# Altium footprint library Altium Example Master PCB Library End.PcbLib: 217 footprints (part 9 of 14)
Each footprint in its own frame and in the unit in brackets; x right, y up, seen from the top. Pads: shape width x height; smd on the part's side, far side on the other; paste and mask are expansions set on the pad; w line width, h text height; cw(c..) or ccw(c..) is an arc to the next point about the centre after c.
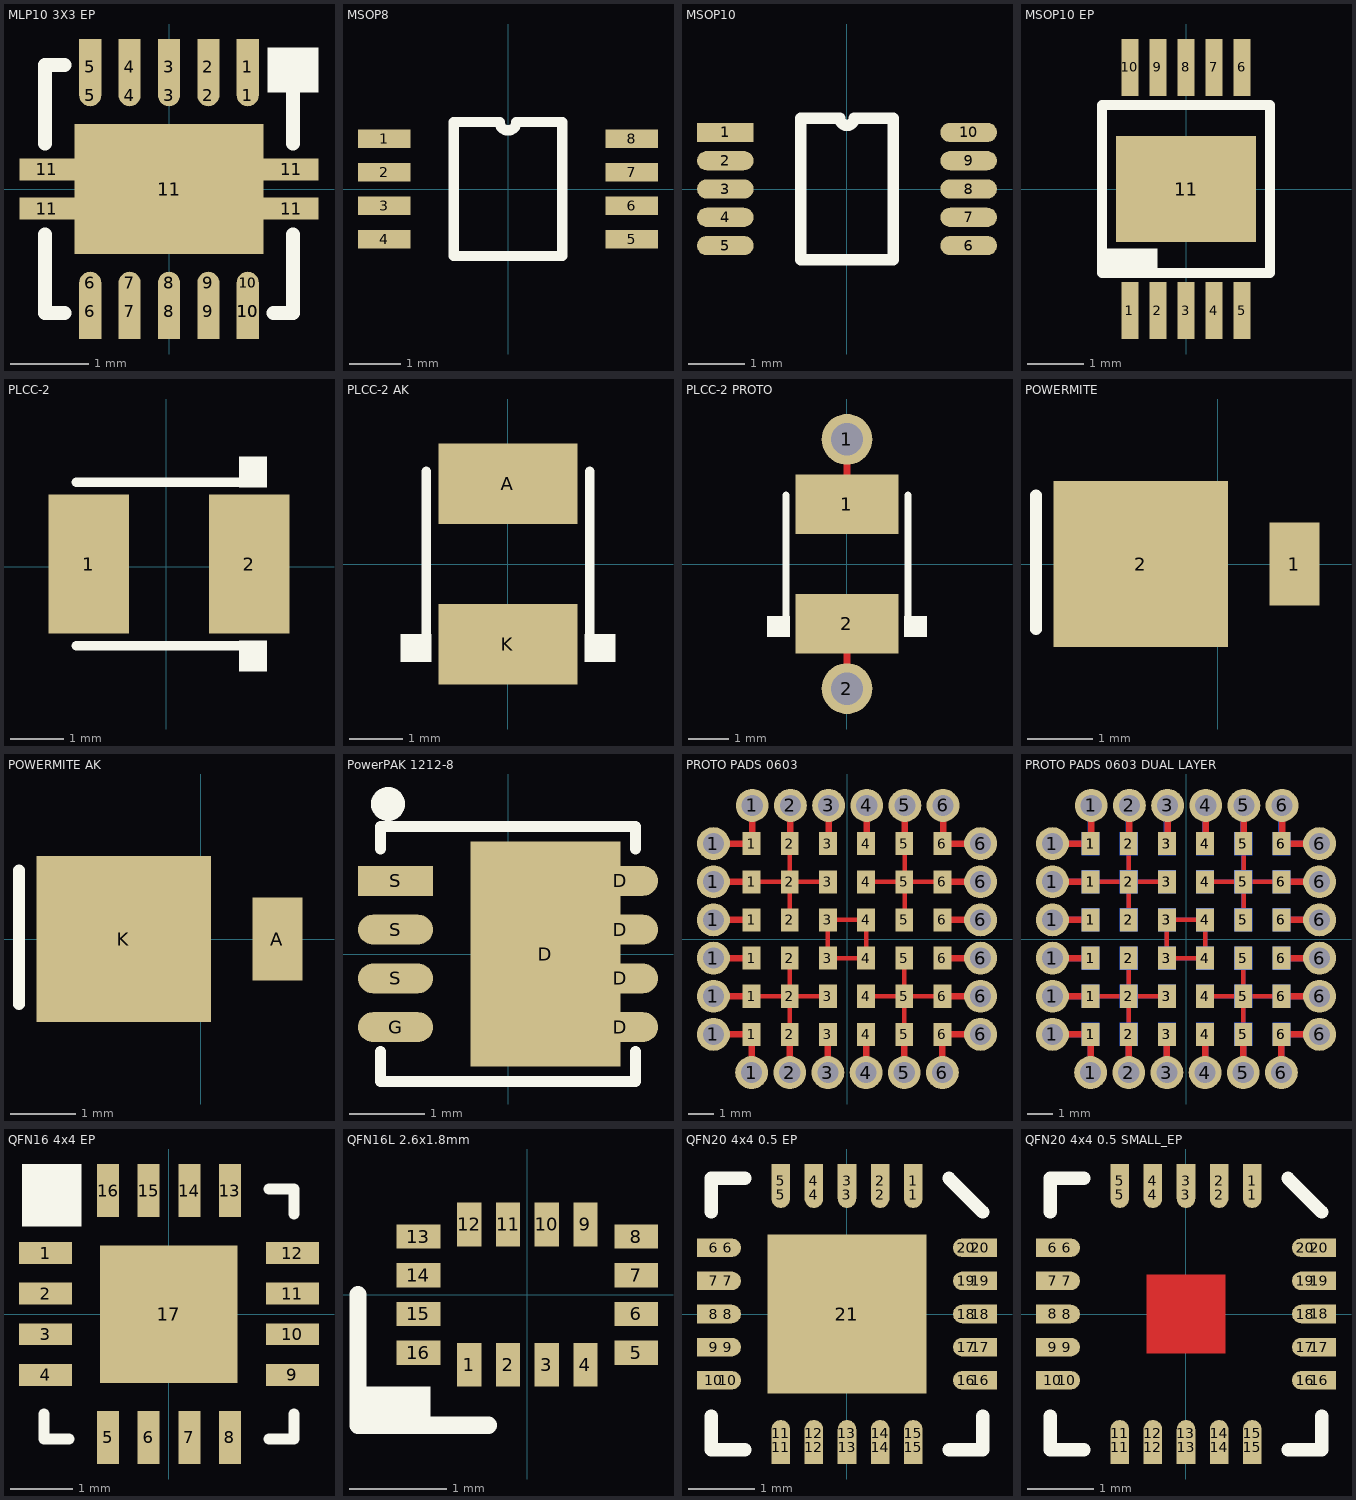
[diagram p8: the footprints below, top view; thin cyan lines are the x and y axes]

## MLP10 3X3 EP [mm]
pads (27):
  round 0.28 smd: 1(1,1.19) 2(0.5,1.19) 3(0,1.19) 4(-0.5,1.19) 5(-1,1.19) 6(-1,-1.19) 7(-0.5,-1.19) 8(0,-1.19) 9(0.5,-1.19) 10(1,-1.19) 10(1,-1.19)
  rect 0.28x0.71 smd: 1(1,1.55) 2(0.5,1.55) 3(0,1.55) 4(-0.5,1.55) 5(-1,1.55) 6(-1,-1.55) 7(-0.5,-1.55) 8(0,-1.55) 9(0.5,-1.55) 10(1,-1.55) 10(1,-1.55)
  rect 0.7x0.28 smd: 11(-1.55,-0.25) 11(-1.55,0.25) 11(1.55,-0.25) 11(1.55,0.25)
  rect 2.4x1.65 smd: 11(0,0)
Top Overlay:
  rectangle: 1.25,1.225 1.9,1.8
  lines w0.178: -1.575,-0.575 -1.575,-1.575 -1.325,-1.575 ; -1.575,0.575 -1.575,1.575 -1.325,1.575 ; 1.325,-1.575 1.575,-1.575 1.575,-0.575 ; 1.575,0.575 1.575,1.575

## MSOP8 [mm]
pads (8):
  rect 1.02x0.356 smd: 1(-2.4,0.975) 2(-2.4,0.325) 3(-2.4,-0.325) 4(-2.4,-0.975) 5(2.4,-0.975) 6(2.4,-0.325) 7(2.4,0.325) 8(2.4,0.975)
Top Overlay:
  lines w0.2: -1.055,-1.3 1.055,-1.3 1.055,1.3 0.162,1.3 cw(c0,1.3) -0.162,1.3 -1.055,1.3 -1.055,-1.3

## MSOP10 [mm]
pads (10):
  rect 1x0.34 smd: 1(-2.15,1)
  oval 1x0.34 smd: 2(-2.15,0.5) 3(-2.15,0) 4(-2.15,-0.5) 5(-2.15,-1) 6(2.15,-1) 7(2.15,-0.5) 8(2.15,0) 9(2.15,0.5) 10(2.15,1)
Top Overlay:
  lines w0.2: -0.815,-1.25 0.815,-1.25 0.815,1.25 0.125,1.25 cw(c0,1.25) -0.125,1.25 -0.815,1.25 -0.815,-1.25

## MSOP10 EP [mil]
pads (11):
  rect 12x40 smd: 1(-39.4,-85.5) 2(-19.7,-85.5) 3(0,-85.5) 4(19.7,-85.5) 5(39.4,-85.5) 6(39.4,85.5) 7(19.7,85.5) 8(0,85.5) 9(-19.7,85.5) 10(-39.4,85.5)
  rect 98.43x74.8 smd: 11(0,0)
Top Overlay:
  rectangle: -59,-59 -20,-42
  lines w7: -59,-59 59,-59 59,59 -59,59 -59,-59

## PLCC-2 [mil]
pads (2):
  rect 59x102 smd: 1(-57.03,1.97) 2(60.97,1.97)
Top Overlay:
  region: 53.15,-54.13 53.15,-76.77 73.82,-76.77 73.82,-54.13
  region: 73.82,58.07 73.82,80.71 53.15,80.71 53.15,58.07
  lines w7: -66.03,-58.03 69.97,-58.03 ; -66.03,61.97 69.97,61.97

## PLCC-2 AK [mil]
pads (2):
  rect 102x59 smd: A(0,59) K(0,-59)
Top Overlay:
  region: -56.1,-51.18 -78.74,-51.18 -78.74,-71.85 -56.1,-71.85
  rectangle: 56.1,-71.85 78.74,-51.18
  lines w7: -60,-68 -60,68 ; 60,-68 60,68

## PLCC-2 PROTO [mil]
pads (4):
  rect 102x59 smd paste-100: 1(0,59) 2(0,-59)
  round 50 hole 32: 1(0,123.03) 2(0,-123.03)
Top Layer:
  lines w7: 0,-123.03 0,-59 ; 0,59 0,123.03
Top Overlay:
  rectangle: 56.1,-71.85 78.74,-51.18
  region: -56.1,-51.18 -78.74,-51.18 -78.74,-71.85 -56.1,-71.85
  lines w7: -60,-68 -60,68 ; 60,-68 60,68

## POWERMITE [mm]
pads (2):
  rect 0.762x1.27 smd: 1(1.175,0)
  rect 2.67x2.54 smd: 2(-1.175,0)
Top Overlay:
  lines w0.178: -2.775,-1 -2.775,1.05

## POWERMITE AK [mm]
pads (2):
  rect 0.762x1.27 smd: A(1.175,0)
  rect 2.67x2.54 smd: K(-1.175,0)
Top Overlay:
  lines w0.178: -2.775,-1 -2.775,1.05

## PowerPAK 1212-8 [mm]
pads (9):
  rect 2x3 smd: D(0.5,0)
  oval 1x0.4 smd: D(1.5,-0.975) D(1.5,-0.325) D(1.5,0.325) D(1.5,0.975) G(-1.5,-0.975) S(-1.5,-0.325) S(-1.5,0.325)
  rect 1x0.4 smd: S(-1.5,0.975)
Top Overlay:
  circle w0.254: c-1.6,2 r0.1
  lines w0.15: -1.7,-1.3 -1.7,-1.7 0,-1.7 1.7,-1.7 1.7,-1.3 ; -1.7,1.4 -1.7,1.7 0,1.7 1.7,1.7 1.7,1.4

## PROTO PADS 0603 [mil]
pads (60):
  round 50 hole 32: 1(-203,-145) 1(-203,-87) 1(-203,-29) 1(-203,29) 1(-203,87) 1(-203,145) 1(-145,-203) 1(-144.02,203) 2(-87,-203) 2(-86.02,203) 3(-29,-203) 3(-28.02,203) 4(29,-203) 4(29.98,203) 5(87,-203) 5(87.98,203) 6(145,-203) 6(145.98,203) 6(203,-145) 6(203,-87) 6(203,-29) 6(203,29) 6(203,87) 6(203,145)
  rect 27x35 smd paste-100: 1(-145,-145) 1(-145,-87) 1(-145,-29) 1(-145,29) 1(-145,87) 1(-145,145) 2(-87,-145) 2(-87,-87) 2(-87,-29) 2(-87,29) 2(-87,87) 2(-87,145) 3(-29,-145) 3(-29,-87) 3(-29,-29) 3(-29,29) 3(-29,87) 3(-29,145) 4(29,-145) 4(29,-87) 4(29,-29) 4(29,29) 4(29,87) 4(29,145) 5(87,-145) 5(87,-87) 5(87,-29) 5(87,29) 5(87,87) 5(87,145) 6(145,-145) 6(145,-87) 6(145,-29) 6(145,29) 6(145,87) 6(145,145)
Top Layer:
  lines w7: -145,-87 -87,-87 -29,-87 ; -145,87 -29,87 ; -87,-29 -87,-145 -87,-87.91 -86.09,-87 ; -87,29 -87,145 ; 29,-87 145,-87 ; 29,87 145,87 ; 87,-145 87,-29 ; 87.98,29.98 87.98,145 ; -29,-29 -29,29 29,29 29,-29 -29,-29
  lines w10: -203,-145 -145.98,-145 ; -203,-87 -145,-87 ; -203,-29 -145,-29 ; -203,29 -144.79,29 ; -203,87 -145,87 ; -203,145 -145,145 ; -145,-203 -145,-145 ; -144.02,145.98 -144.02,203 ; -87,-203 -87,-145 ; -86.02,145 -86.02,203 ; -29,-203 -29,-144.79 ; -28.02,145 -28.02,203 ; 29,-203 29,-145 ; 29.98,144.79 29.98,203 ; 87,-203 87,-145 ; 87.98,145 87.98,203 ; 144.79,-29 203,-29 ; 145,-203 145,-145.98 ; 145,-145 203,-145 ; 145,-87 203,-87 ; 145,29 203,29 ; 145,87 203,87 ; 145.98,203 145.98,145 203,145

## PROTO PADS 0603 DUAL LAYER [mil]
pads (96):
  round 50 hole 32: 1(-203,-145) 1(-203,-87) 1(-203,-29) 1(-203,29) 1(-203,87) 1(-203,145) 1(-145,-203) 1(-144.02,203) 2(-87,-203) 2(-86.02,203) 3(-29,-203) 3(-28.02,203) 4(29,-203) 4(29.98,203) 5(87,-203) 5(87.98,203) 6(145,-203) 6(145.98,203) 6(203,-145) 6(203,-87) 6(203,-29) 6(203,29) 6(203,87) 6(203,145)
  rect 27x35 smd paste-100: 1(-145,-145) 1(-145,-87) 1(-145,-29) 1(-145,29) 1(-145,87) 1(-145,145) 2(-87,-145) 2(-87,-87) 2(-87,-29) 2(-87,29) 2(-87,87) 2(-87,145) 3(-29,-145) 3(-29,-87) 3(-29,-29) 3(-29,29) 3(-29,87) 3(-29,145) 4(29,-145) 4(29,-87) 4(29,-29) 4(29,29) 4(29,87) 4(29,145) 5(87,-145) 5(87,-87) 5(87,-29) 5(87,29) 5(87,87) 5(87,145) 6(145,-145) 6(145,-87) 6(145,-29) 6(145,29) 6(145,87) 6(145,145)
  rect 27x35 smd far side paste-100: 1(-145,-145) 1(-145,-87) 1(-145,-29) 1(-145,29) 1(-145,87) 1(-145,145) 2(-87,-145) 2(-87,-87) 2(-87,-29) 2(-87,29) 2(-87,87) 2(-87,145) 3(-29,-145) 3(-29,-87) 3(-29,-29) 3(-29,29) 3(-29,87) 3(-29,145) 4(29,-145) 4(29,-87) 4(29,-29) 4(29,29) 4(29,87) 4(29,145) 5(87,-145) 5(87,-87) 5(87,-29) 5(87,29) 5(87,87) 5(87,145) 6(145,-145) 6(145,-87) 6(145,-29) 6(145,29) 6(145,87) 6(145,145)
Top Layer:
  lines w7: -145,-87 -87,-87 -29,-87 ; -145,87 -29,87 ; -87,-29 -87,-145 -87,-87.91 -86.09,-87 ; -87,29 -87,145 ; 29,-87 145,-87 ; 29,87 145,87 ; 87,-145 87,-29 ; 87.98,29.98 87.98,145 ; -29,-29 29,-29 29,29 -29,29 -29,-29
  lines w10: -203,-145 -145.98,-145 ; -203,-87 -145,-87 ; -203,-29 -145,-29 ; -203,29 -144.79,29 ; -203,87 -145,87 ; -203,145 -145,145 ; -145,-203 -145,-145 ; -144.02,145.98 -144.02,203 ; -87,-203 -87,-145 ; -86.02,145 -86.02,203 ; -29,-203 -29,-144.79 ; -28.02,145 -28.02,203 ; 29,-203 29,-145 ; 29.98,144.79 29.98,203 ; 87,-203 87,-145 ; 87.98,145 87.98,203 ; 144.79,-29 203,-29 ; 145,-203 145,-145.98 ; 145,-145 203,-145 ; 145,-87 203,-87 ; 145,29 203,29 ; 145,87 203,87 ; 145.98,203 145.98,145 203,145
Bottom Layer:
  lines w7: -145,87 -87,87 ; -87,-145 -87,-87 ; -87,-29 -87,-87 ; -87,29 -87,87 ; -87,145 -87,87 ; -29,-87 -87,-87 ; 29,-87 87,-87 ; 87,-145 87,-87 ; 87,-29 87,-87 ; 87,29 87,87 ; 87,145 87,87 ; 88.58,88.58 87,87 ; 145,-87 87,-87 ; 145,87 87,87 ; -87,-87 -145,-87 -87,-87 ; -87,87 -29,87 -87,87 ; 87,87 29,87 87,87 ; -29,-29 29,-29 29,29 -29,29 -29,-29
  lines w10: -203,-145 -145,-145 -145,-203 ; -203,-87 -145,-87 ; -203,-29 -145,-29 ; -203,29 -145,29 ; -203,87 -145,87 ; -203,145 -145,145 -145,202.02 ; -87,-203 -87,-145 ; -87,145 -87,202.02 ; -29,-203 -29,-145 ; -29,145 -29,202.02 ; 29,-203 29,-145 ; 29,145 29,202.02 ; 87,-203 87,-145 ; 87,145 87,202.02 ; 145,-203 145,-145 203,-145 ; 145,-87 203,-87 ; 145,-29 203,-29 ; 145,29 203,29 ; 145,87 203,87 ; 145,202.02 145,145 203,145

## QFN16 4x4 EP [mm]
pads (17):
  rect 0.85x0.35 smd: 1(-1.975,0.975) 2(-1.975,0.325) 3(-1.975,-0.325) 4(-1.975,-0.975) 9(1.975,-0.975) 10(1.975,-0.325) 11(1.975,0.325) 12(1.975,0.975)
  rect 0.35x0.85 smd: 5(-0.975,-1.975) 6(-0.325,-1.975) 7(0.325,-1.975) 8(0.975,-1.975) 13(0.975,1.975) 14(0.325,1.975) 15(-0.325,1.975) 16(-0.975,1.975)
  rect 2.2x2.2 smd: 17(0,0)
Top Overlay:
  rectangle: -2.35,1.4 -1.4,2.4
  lines w0.178: -2,-1.6 -2,-2 -1.6,-2 ; 1.6,-2 2,-2 2,-1.6 ; 1.6,2 2,2 2,1.6
Keep-Out Layer:
  rectangle: -2.025,1.525 -1.525,2.025

## QFN16L 2.6x1.8mm [mm]
pads (16):
  rect 0.25x0.45 smd: 1(-0.6,-0.725) 2(-0.2,-0.725) 3(0.2,-0.725) 4(0.6,-0.725) 9(0.6,0.725) 10(0.2,0.725) 11(-0.2,0.725) 12(-0.6,0.725)
  rect 0.45x0.25 smd: 5(1.125,-0.6) 6(1.125,-0.2) 7(1.125,0.2) 8(1.125,0.6) 13(-1.125,0.6) 14(-1.125,0.2) 15(-1.125,-0.2) 16(-1.125,-0.6)
Top Overlay:
  rectangle: -1.75,-1.35 -1,-0.95
  lines w0.178: -1.75,0 -1.75,-1.35 -0.4,-1.35

## QFN20 4x4 0.5 EP [mm]
pads (41):
  oval 0.28x0.4 smd: 1(1,1.8) 2(0.5,1.8) 3(0,1.8) 4(-0.5,1.8) 5(-1,1.8) 11(-1,-1.8) 12(-0.5,-1.8) 13(0,-1.8) 14(0.5,-1.8) 15(1,-1.8)
  rect 0.28x0.5 smd: 1(1,2.015) 2(0.5,2.015) 3(0,2.015) 4(-0.5,2.015) 5(-1,2.015) 11(-1,-2.015) 12(-0.5,-2.015) 13(0,-2.015) 14(0.5,-2.015) 15(1,-2.015)
  rect 0.5x0.28 smd: 6(-2.015,1) 7(-2.015,0.5) 8(-2.015,0) 9(-2.015,-0.5) 10(-2.015,-1) 16(2.015,-1) 17(2.015,-0.5) 18(2.015,0) 19(2.015,0.5) 20(2.015,1)
  oval 0.4x0.28 smd: 6(-1.8,1) 7(-1.8,0.5) 8(-1.8,0) 9(-1.8,-0.5) 10(-1.8,-1) 16(1.8,-1) 17(1.8,-0.5) 18(1.8,0) 19(1.8,0.5) 20(1.8,1)
  rect 2.4x2.4 smd: 21(0,0)
Top Overlay:
  lines w0.2: -2.05,-1.54 -2.05,-2.05 -1.54,-2.05 ; -2.05,1.54 -2.05,2.05 -1.54,2.05 ; 1.54,-2.05 2.05,-2.05 2.05,-1.54 ; 1.54,2.05 2.05,1.54

## QFN20 4x4 0.5 SMALL_EP [mm]
pads (40):
  oval 0.28x0.4 smd: 1(1,1.8) 2(0.5,1.8) 3(0,1.8) 4(-0.5,1.8) 5(-1,1.8) 11(-1,-1.8) 12(-0.5,-1.8) 13(0,-1.8) 14(0.5,-1.8) 15(1,-1.8)
  rect 0.28x0.5 smd: 1(1,2.015) 2(0.5,2.015) 3(0,2.015) 4(-0.5,2.015) 5(-1,2.015) 11(-1,-2.015) 12(-0.5,-2.015) 13(0,-2.015) 14(0.5,-2.015) 15(1,-2.015)
  rect 0.5x0.28 smd: 6(-2.015,1) 7(-2.015,0.5) 8(-2.015,0) 9(-2.015,-0.5) 10(-2.015,-1) 16(2.015,-1) 17(2.015,-0.5) 18(2.015,0) 19(2.015,0.5) 20(2.015,1)
  oval 0.4x0.28 smd: 6(-1.8,1) 7(-1.8,0.5) 8(-1.8,0) 9(-1.8,-0.5) 10(-1.8,-1) 16(1.8,-1) 17(1.8,-0.5) 18(1.8,0) 19(1.8,0.5) 20(1.8,1)
Top Layer:
  region: 0.6,0.6 -0.6,0.6 -0.6,-0.6 0.6,-0.6
Top Overlay:
  lines w0.2: -2.05,-1.54 -2.05,-2.05 -1.54,-2.05 ; -2.05,1.54 -2.05,2.05 -1.54,2.05 ; 1.54,-2.05 2.05,-2.05 2.05,-1.54 ; 1.54,2.05 2.05,1.54